# Altium footprint library FYLS-5050RGB.PcbLib: 1 footprints
Each footprint in its own frame and in the unit in brackets; x right, y up, seen from the top. Pads: shape width x height; smd on the part's side, far side on the other; paste and mask are expansions set on the pad; w line width, h text height; cw(c..) or ccw(c..) is an arc to the next point about the centre after c.
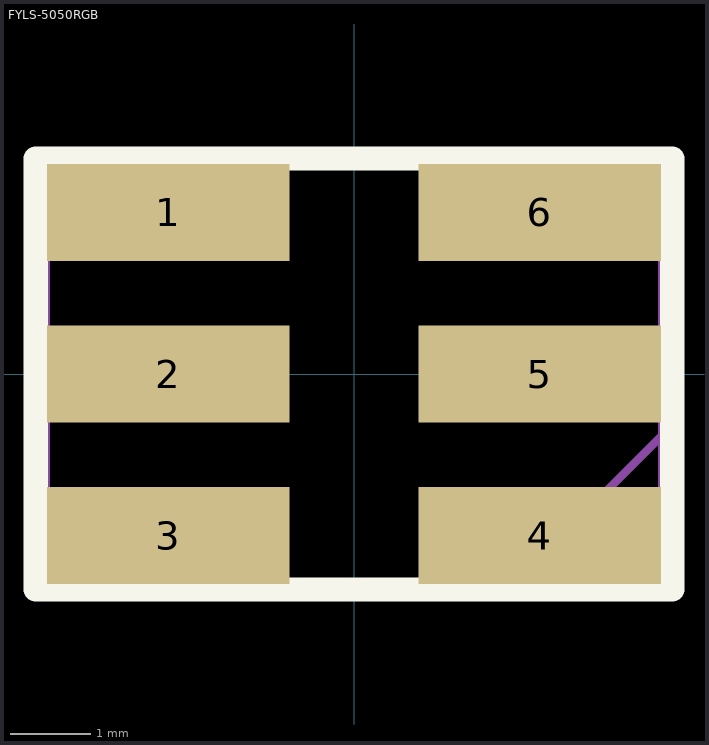
[diagram p0: the footprint, top view; thin cyan lines are the x and y axes]

## FYLS-5050RGB [mm]
height 0.9
pads (6):
  rect 3x1.2 smd mask+0.015: 1(-2.3,2) 2(-2.3,0) 3(-2.3,-2) 4(2.3,-2) 5(2.3,0) 6(2.3,2)
Top Overlay:
  lines w0.3: -3.937,-2.667 -3.937,2.667 3.937,2.667 3.937,-2.667 -3.937,-2.667
Top Assembly:
  lines w0.1: -3.81,0 -3.81,0.127 ; 1.905,-2.667 3.81,-0.762 ; -3.81,-2.667 -3.81,2.667 3.81,2.667 3.81,-2.667 -3.81,-2.667
  text "'.Designator'" at -0.95,-0.35 h0.7
3D body "WS2812b.x_t": height 1.7, standoff 0, extent -2.675,-2.475 2.675,2.475